# Altium schematic symbol library GDT.Schlib: 1 symbol
Pins are listed as number, name and electrical type; pins without a type are passive.

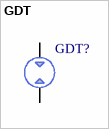
[diagram p0: symbol GDT]

## GDT
designator GDT?  (value not drawn)
pins: 1, 2